# Altium footprint library CAP_1.5uF_400V.PcbLib: 1 footprints
Each footprint in its own frame and in the unit in brackets; x right, y up, seen from the top. Pads: shape width x height; smd on the part's side, far side on the other; paste and mask are expansions set on the pad; w line width, h text height; cw(c..) or ccw(c..) is an arc to the next point about the centre after c.
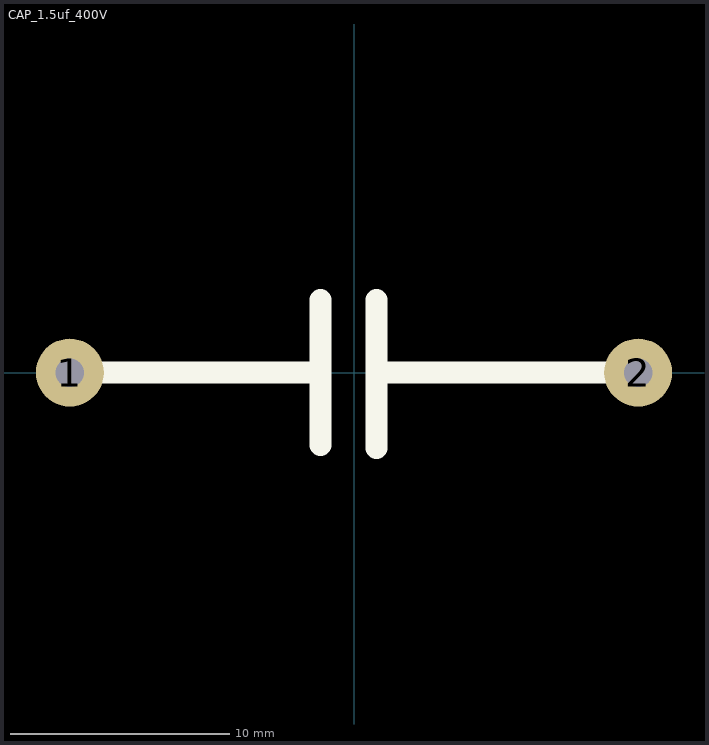
[diagram p0: the footprint, top view; thin cyan lines are the x and y axes]

## CAP_1.5uf_400V [mm]
pads (2):
  round 3.1 hole 1.3: 1(-12.954,0) 2(12.954,0)
Top Overlay:
  lines w1: -13.081,0 -1.524,0 ; -1.524,-3.302 -1.524,3.302 -1.524,-0.127 ; 1.016,-3.429 1.016,-0.254 ; 1.016,-0.127 1.016,3.302 ; 1.016,0 13.081,0
3D body "Hitano MER 1.5uF 400V.STEP": height 17.66, standoff -3.34, extent -14.25,-4.3 14.25,4.3